# Altium integrated library con-pc104.IntLib: 3 symbols
Pins are listed as number, name and electrical type; pins without a type are passive.

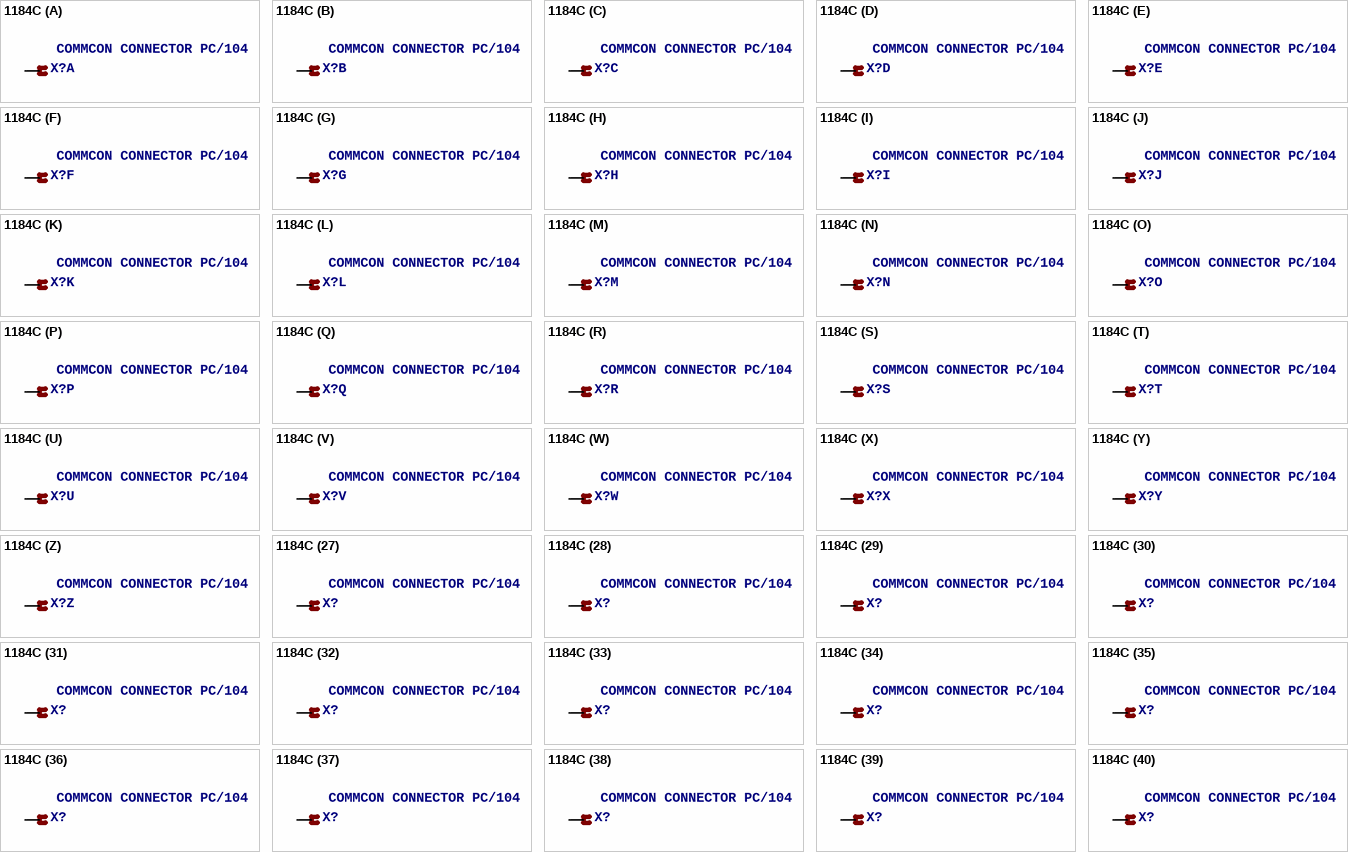
[diagram p0: symbol 1184C]

## 1184C
designator X?, comment COMMCON CONNECTOR PC/104
footprint 1184C
part A pins: A1 1
part B pins: A2 1
part C pins: A3 1
part D pins: A4 1
part E pins: A5 1
part F pins: A6 1
part G pins: A7 1
part H pins: A8 1
part I pins: A9 1
part J pins: A10 1
part K pins: A11 1
part L pins: A12 1
part M pins: A13 1
part N pins: A14 1
part O pins: A15 1
part P pins: A16 1
part Q pins: A17 1
part R pins: A18 1
part S pins: A19 1
part T pins: A20 1
part U pins: A21 1
part V pins: A22 1
part W pins: A23 1
part X pins: A24 1
part Y pins: A25 1
part Z pins: A26 1
part 27 pins: A27 1
part 28 pins: A28 1
part 29 pins: A29 1
part 30 pins: A30 1
part 31 pins: A31 1
part 32 pins: A32 1
part 33 pins: B1 1
part 34 pins: B2 1
part 35 pins: B3 1
part 36 pins: B4 1
part 37 pins: B5 1
part 38 pins: B6 1
part 39 pins: B7 1
part 40 pins: B8 1
part 41 pins: B9 1
part 42 pins: B10 1
part 43 pins: B11 1
part 44 pins: B12 1
part 45 pins: B13 1
part 46 pins: B14 1
part 47 pins: B15 1
part 48 pins: B16 1
part 49 pins: B17 1
part 50 pins: B18 1
part 51 pins: B19 1
part 52 pins: B20 1
part 53 pins: B21 1
part 54 pins: B22 1
part 55 pins: B23 1
part 56 pins: B24 1
part 57 pins: B25 1
part 58 pins: B26 1
part 59 pins: B27 1
part 60 pins: B28 1
part 61 pins: B29 1
part 62 pins: B30 1
part 63 pins: B31 1
part 64 pins: B32 1
part 65 pins: A33 1
part 66 pins: A34 1
part 67 pins: A35 1
part 68 pins: A36 1
part 69 pins: A37 1
part 70 pins: A38 1
part 71 pins: A39 1
part 72 pins: A40 1
part 73 pins: A41 1
part 74 pins: A42 1
part 75 pins: A43 1
part 76 pins: A44 1
part 77 pins: A45 1
part 78 pins: A46 1
part 79 pins: A47 1
part 80 pins: A48 1
part 81 pins: A49 1
part 82 pins: A50 1
part 83 pins: A51 1
part 84 pins: A52 1
part 85 pins: B33 1
part 86 pins: B34 1
part 87 pins: B35 1
part 88 pins: B36 1
part 89 pins: B37 1
part 90 pins: B38 1
part 91 pins: B39 1
part 92 pins: B40 1
part 93 pins: B41 1
part 94 pins: B42 1
part 95 pins: B43 1
part 96 pins: B44 1
part 97 pins: B45 1
part 98 pins: B46 1
part 99 pins: B47 1
part 100 pins: B48 1
part 101 pins: B49 1
part 102 pins: B50 1
part 103 pins: B51 1
part 104 pins: B52 1

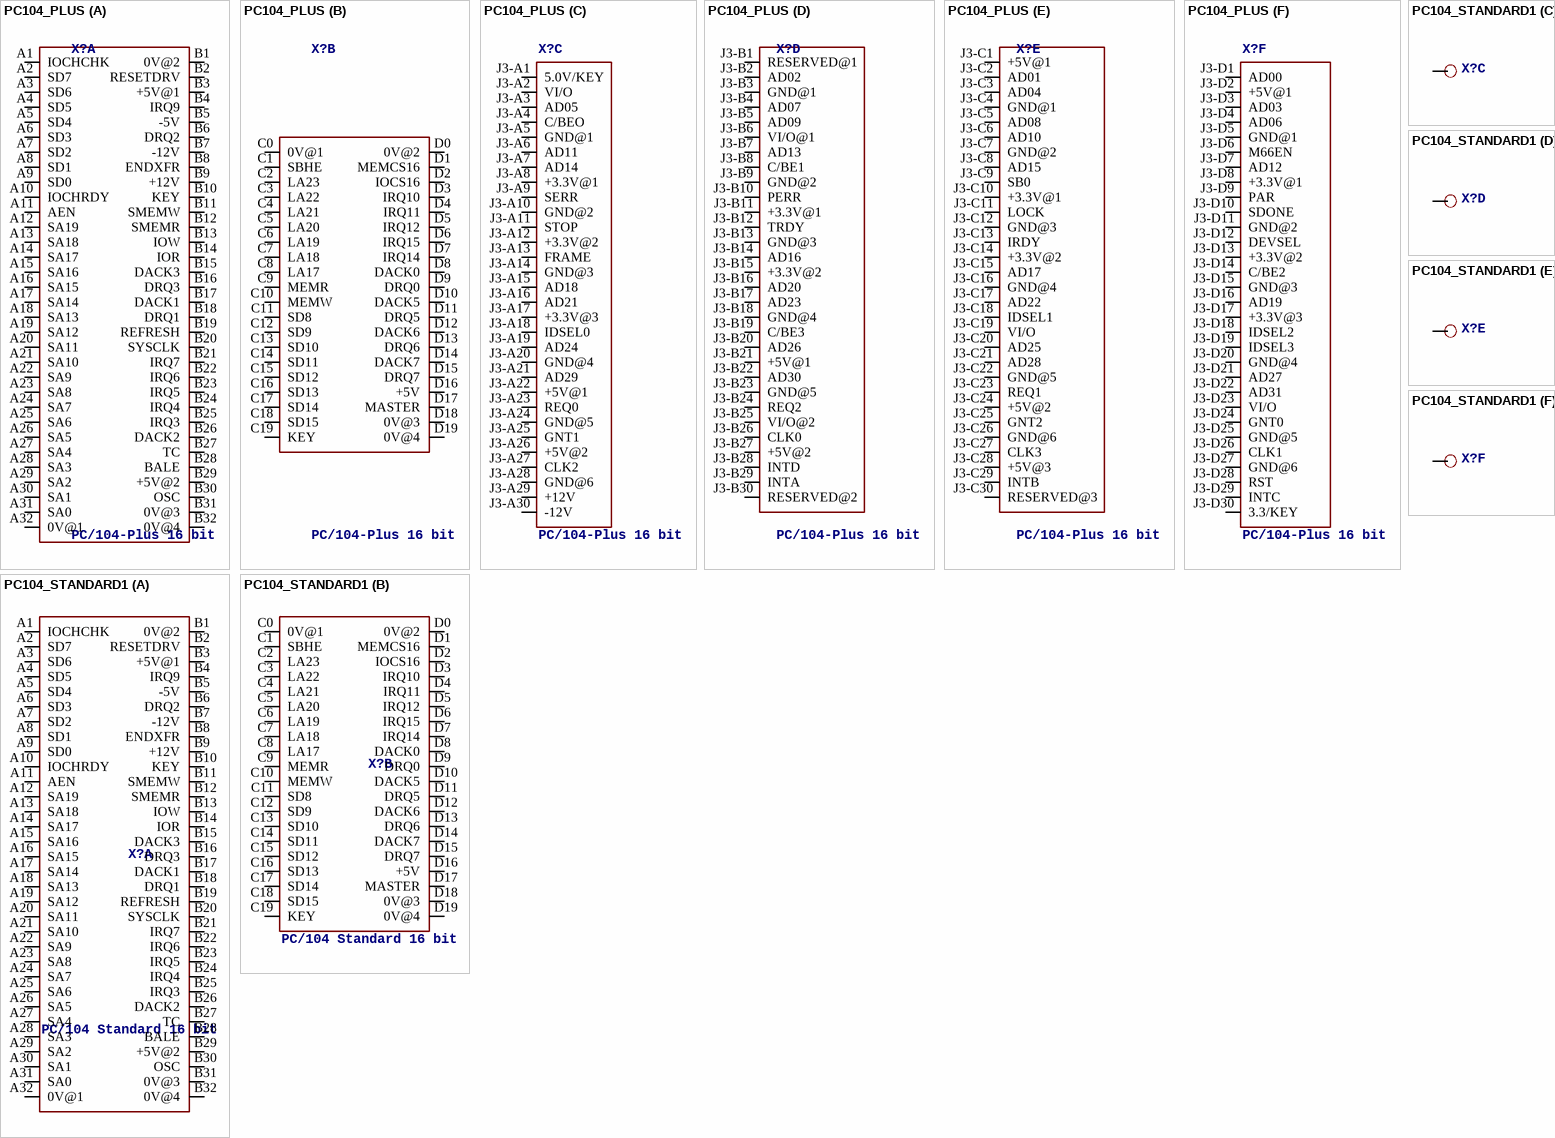
[diagram p1: symbols PC104_PLUS to PC104_STANDARD1]

## PC104_PLUS
designator X?, comment PC/104-Plus 16 bit
footprint PC104-PLUS
part A pins: A1 IOCHCHK, A2 SD7, A3 SD6, A4 SD5, A5 SD4, A6 SD3, A7 SD2, A8 SD1, A9 SD0, A10 IOCHRDY, A11 AEN, A12 SA19, A13 SA18, A14 SA17, A15 SA16, A16 SA15, A17 SA14, A18 SA13, A19 SA12, A20 SA11, A21 SA10, A22 SA9, A23 SA8, A24 SA7, A25 SA6, A26 SA5, A27 SA4, A28 SA3, A29 SA2, A30 SA1, A31 SA0, A32 0V@1, B1 0V@2, B2 RESETDRV, B3 +5V@1, B4 IRQ9, B5 -5V, B6 DRQ2, B7 -12V, B8 ENDXFR, B9 +12V, B10 KEY, B11 SMEMW, B12 SMEMR, B13 IOW, B14 IOR, B15 DACK3, B16 DRQ3, B17 DACK1, B18 DRQ1, B19 REFRESH, B20 SYSCLK, B21 IRQ7, B22 IRQ6, B23 IRQ5, B24 IRQ4, B25 IRQ3, B26 DACK2, B27 TC, B28 BALE, B29 +5V@2, B30 OSC, B31 0V@3, B32 0V@4
part B pins: C0 0V@1, C1 SBHE, C2 LA23, C3 LA22, C4 LA21, C5 LA20, C6 LA19, C7 LA18, C8 LA17, C9 MEMR, C10 MEMW, C11 SD8, C12 SD9, C13 SD10, C14 SD11, C15 SD12, C16 SD13, C17 SD14, C18 SD15, C19 KEY, D0 0V@2, D1 MEMCS16, D2 IOCS16, D3 IRQ10, D4 IRQ11, D5 IRQ12, D6 IRQ15, D7 IRQ14, D8 DACK0, D9 DRQ0, D10 DACK5, D11 DRQ5, D12 DACK6, D13 DRQ6, D14 DACK7, D15 DRQ7, D16 +5V, D17 MASTER, D18 0V@3, D19 0V@4
part C pins: J3-A1 5.0V/KEY, J3-A2 VI/O, J3-A3 AD05, J3-A4 C/BEO, J3-A5 GND@1, J3-A6 AD11, J3-A7 AD14, J3-A8 +3.3V@1, J3-A9 SERR, J3-A10 GND@2, J3-A11 STOP, J3-A12 +3.3V@2, J3-A13 FRAME, J3-A14 GND@3, J3-A15 AD18, J3-A16 AD21, J3-A17 +3.3V@3, J3-A18 IDSEL0, J3-A19 AD24, J3-A20 GND@4, J3-A21 AD29, J3-A22 +5V@1, J3-A23 REQ0, J3-A24 GND@5, J3-A25 GNT1, J3-A26 +5V@2, J3-A27 CLK2, J3-A28 GND@6, J3-A29 +12V, J3-A30 -12V
part D pins: J3-B1 RESERVED@1, J3-B2 AD02, J3-B3 GND@1, J3-B4 AD07, J3-B5 AD09, J3-B6 VI/O@1, J3-B7 AD13, J3-B8 C/BE1, J3-B9 GND@2, J3-B10 PERR, J3-B11 +3.3V@1, J3-B12 TRDY, J3-B13 GND@3, J3-B14 AD16, J3-B15 +3.3V@2, J3-B16 AD20, J3-B17 AD23, J3-B18 GND@4, J3-B19 C/BE3, J3-B20 AD26, J3-B21 +5V@1, J3-B22 AD30, J3-B23 GND@5, J3-B24 REQ2, J3-B25 VI/O@2, J3-B26 CLK0, J3-B27 +5V@2, J3-B28 INTD, J3-B29 INTA, J3-B30 RESERVED@2
part E pins: J3-C1 +5V@1, J3-C2 AD01, J3-C3 AD04, J3-C4 GND@1, J3-C5 AD08, J3-C6 AD10, J3-C7 GND@2, J3-C8 AD15, J3-C9 SB0, J3-C10 +3.3V@1, J3-C11 LOCK, J3-C12 GND@3, J3-C13 IRDY, J3-C14 +3.3V@2, J3-C15 AD17, J3-C16 GND@4, J3-C17 AD22, J3-C18 IDSEL1, J3-C19 VI/O, J3-C20 AD25, J3-C21 AD28, J3-C22 GND@5, J3-C23 REQ1, J3-C24 +5V@2, J3-C25 GNT2, J3-C26 GND@6, J3-C27 CLK3, J3-C28 +5V@3, J3-C29 INTB, J3-C30 RESERVED@3
part F pins: J3-D1 AD00, J3-D2 +5V@1, J3-D3 AD03, J3-D4 AD06, J3-D5 GND@1, J3-D6 M66EN, J3-D7 AD12, J3-D8 +3.3V@1, J3-D9 PAR, J3-D10 SDONE, J3-D11 GND@2, J3-D12 DEVSEL, J3-D13 +3.3V@2, J3-D14 C/BE2, J3-D15 GND@3, J3-D16 AD19, J3-D17 +3.3V@3, J3-D18 IDSEL2, J3-D19 IDSEL3, J3-D20 GND@4, J3-D21 AD27, J3-D22 AD31, J3-D23 VI/O, J3-D24 GNT0, J3-D25 GND@5, J3-D26 CLK1, J3-D27 GND@6, J3-D28 RST, J3-D29 INTC, J3-D30 3.3/KEY

## PC104_STANDARD1
designator X?, comment PC/104 Standard 16 bit
footprint PC104-STANDARD
part A pins: A1 IOCHCHK, A2 SD7, A3 SD6, A4 SD5, A5 SD4, A6 SD3, A7 SD2, A8 SD1, A9 SD0, A10 IOCHRDY, A11 AEN, A12 SA19, A13 SA18, A14 SA17, A15 SA16, A16 SA15, A17 SA14, A18 SA13, A19 SA12, A20 SA11, A21 SA10, A22 SA9, A23 SA8, A24 SA7, A25 SA6, A26 SA5, A27 SA4, A28 SA3, A29 SA2, A30 SA1, A31 SA0, A32 0V@1, B1 0V@2, B2 RESETDRV, B3 +5V@1, B4 IRQ9, B5 -5V, B6 DRQ2, B7 -12V, B8 ENDXFR, B9 +12V, B10 KEY, B11 SMEMW, B12 SMEMR, B13 IOW, B14 IOR, B15 DACK3, B16 DRQ3, B17 DACK1, B18 DRQ1, B19 REFRESH, B20 SYSCLK, B21 IRQ7, B22 IRQ6, B23 IRQ5, B24 IRQ4, B25 IRQ3, B26 DACK2, B27 TC, B28 BALE, B29 +5V@2, B30 OSC, B31 0V@3, B32 0V@4
part B pins: C0 0V@1, C1 SBHE, C2 LA23, C3 LA22, C4 LA21, C5 LA20, C6 LA19, C7 LA18, C8 LA17, C9 MEMR, C10 MEMW, C11 SD8, C12 SD9, C13 SD10, C14 SD11, C15 SD12, C16 SD13, C17 SD14, C18 SD15, C19 KEY, D0 0V@2, D1 MEMCS16, D2 IOCS16, D3 IRQ10, D4 IRQ11, D5 IRQ12, D6 IRQ15, D7 IRQ14, D8 DACK0, D9 DRQ0, D10 DACK5, D11 DRQ5, D12 DACK6, D13 DRQ6, D14 DACK7, D15 DRQ7, D16 +5V, D17 MASTER, D18 0V@3, D19 0V@4
part C pins: GND@1 1
part D pins: GND@2 1
part E pins: GND@3 1
part F pins: GND@4 1